# Altium integrated library NSC Voltage Reference.IntLib: 298 symbols (part 6 of 7)
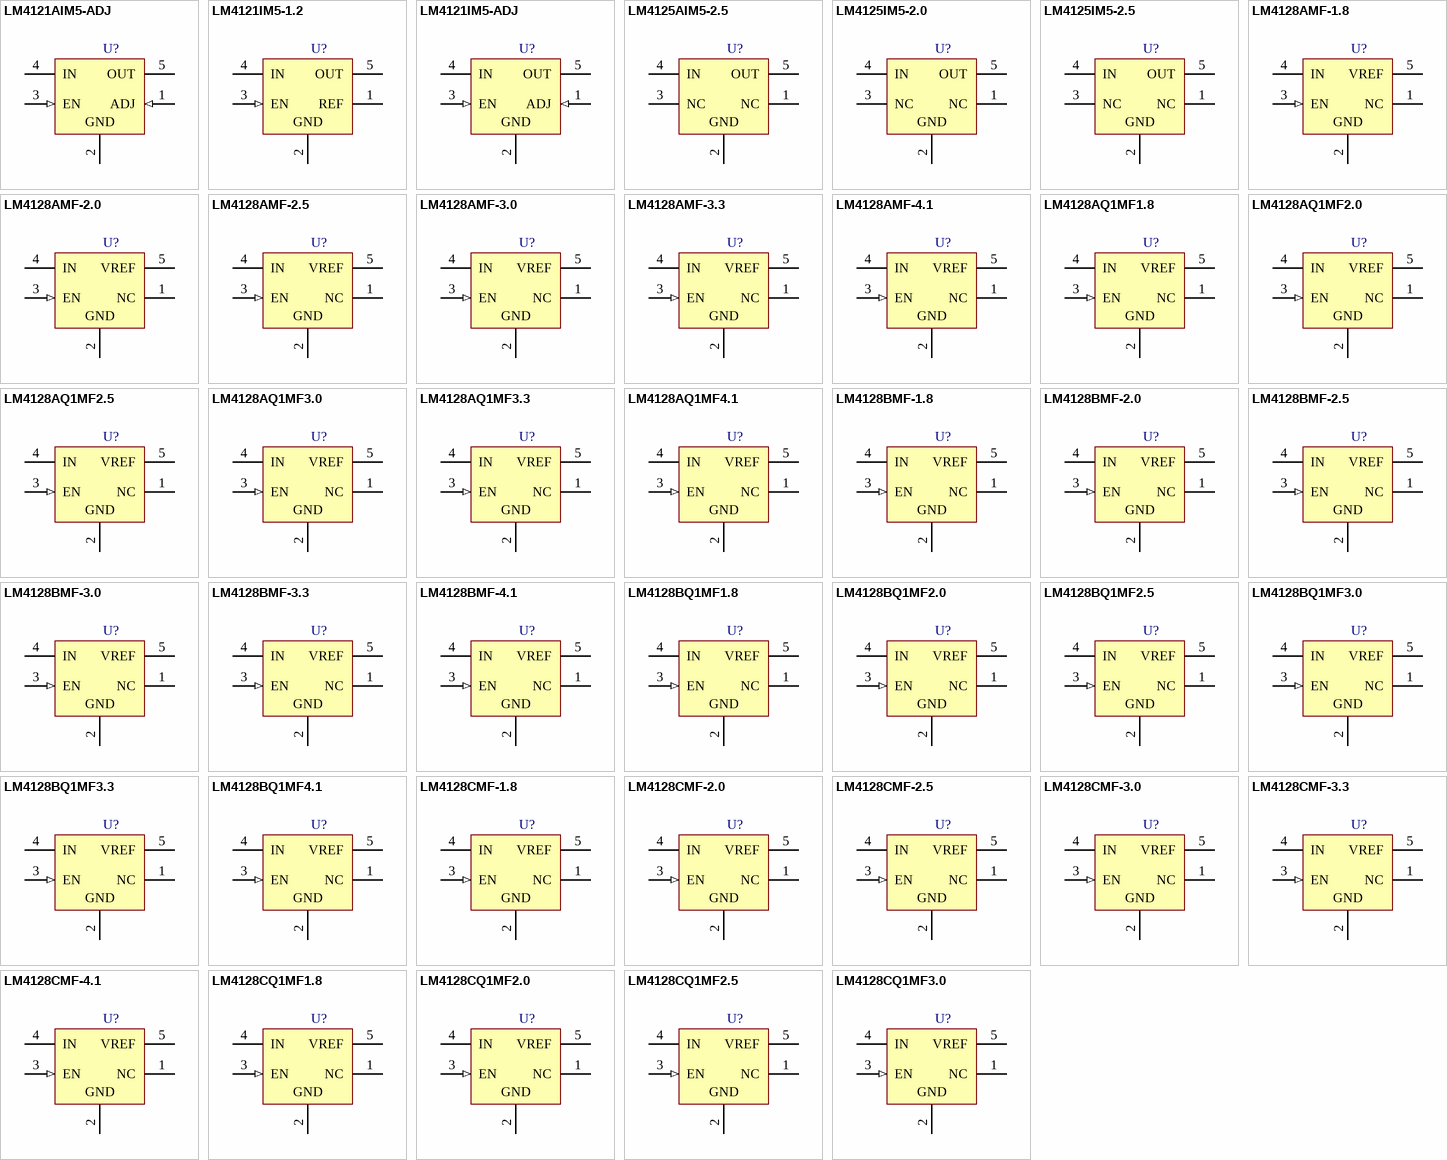
[diagram p12: symbols LM4121AIM5-ADJ to LM4128CQ1MF3.0]

## LM4128CMF-2.5
designator U?
SOT-23 Precision Micropower Series Voltage Reference; PartNumber: LM4128CMF-2.5; Manufacturer: National Semiconductor; CompType: Voltage Reference IC; PackageTopMarking: R5CC*XTT; PowerWise: Y; Published: 4-Dec-2008; DatasheetVersion: Nov-2006; PackageVersion: revD, Aug-2008; PackageReference: MF05A; Publisher: Altium Limited; PackageDescription: Molded SOT-23, .115 x .063 x .040 in Body, 5 Lead, .0375 in Pitch; RoHS: Y; PinCount: 5; DigiKeyPartNumber: LM4128CMF-2.5CT-ND; ComponentLink1Description: LM4128 Datasheet; ComponentLink1URL: http://www.national.com/ds/LM/LM4128.pdf; ComponentLink2Description: LM4128 Web Page; ComponentLink2URL: http://www.national.com/pf/LM/LM4128.html; ComponentLink3Description: MF05A Package Page; ComponentLink3URL: http://www.national.com/packaging/folders/mf05a.html
footprint MF05A_N (SOT23, 5-Leads, Body 2.9x1.6mm, Pitch 0.95mm, Lead Span 2.8mm, IPC Medium Density)
footprint MF05A_L (SOT23, 5-Leads, Body 2.9x1.6mm, Pitch 0.95mm, Lead Span 2.8mm, IPC High Density)
footprint MF05A_M (SOT23, 5-Leads, Body 2.9x1.6mm, Pitch 0.95mm, Lead Span 2.8mm, IPC Low Density)
pins: 1 NC, 2 GND (power), 3 EN (in), 4 IN (power), 5 VREF (power)

## LM4128CMF-3.0
designator U?
SOT-23 Precision Micropower Series Voltage Reference; PartNumber: LM4128CMF-3.0; Manufacturer: National Semiconductor; CompType: Voltage Reference IC; PackageTopMarking: R5DC*XTT; PowerWise: Y; Published: 4-Dec-2008; DatasheetVersion: Nov-2006; PackageVersion: revD, Aug-2008; PackageReference: MF05A; Publisher: Altium Limited; PackageDescription: Molded SOT-23, .115 x .063 x .040 in Body, 5 Lead, .0375 in Pitch; RoHS: Y; PinCount: 5; DigiKeyPartNumber: LM4128CMF-3.0CT-ND; ComponentLink1Description: LM4128 Datasheet; ComponentLink1URL: http://www.national.com/ds/LM/LM4128.pdf; ComponentLink2Description: LM4128 Web Page; ComponentLink2URL: http://www.national.com/pf/LM/LM4128.html; ComponentLink3Description: MF05A Package Page; ComponentLink3URL: http://www.national.com/packaging/folders/mf05a.html
footprint MF05A_N (SOT23, 5-Leads, Body 2.9x1.6mm, Pitch 0.95mm, Lead Span 2.8mm, IPC Medium Density)
footprint MF05A_L (SOT23, 5-Leads, Body 2.9x1.6mm, Pitch 0.95mm, Lead Span 2.8mm, IPC High Density)
footprint MF05A_M (SOT23, 5-Leads, Body 2.9x1.6mm, Pitch 0.95mm, Lead Span 2.8mm, IPC Low Density)
pins: 1 NC, 2 GND (power), 3 EN (in), 4 IN (power), 5 VREF (power)

## LM4128CMF-3.3
designator U?
SOT-23 Precision Micropower Series Voltage Reference; PartNumber: LM4128CMF-3.3; Manufacturer: National Semiconductor; CompType: Voltage Reference IC; PackageTopMarking: R5EC*XTT; PowerWise: Y; Published: 4-Dec-2008; DatasheetVersion: Nov-2006; PackageVersion: revD, Aug-2008; PackageReference: MF05A; Publisher: Altium Limited; PackageDescription: Molded SOT-23, .115 x .063 x .040 in Body, 5 Lead, .0375 in Pitch; RoHS: Y; PinCount: 5; DigiKeyPartNumber: LM4128CMF-3.3CT-ND; ComponentLink1Description: LM4128 Datasheet; ComponentLink1URL: http://www.national.com/ds/LM/LM4128.pdf; ComponentLink2Description: LM4128 Web Page; ComponentLink2URL: http://www.national.com/pf/LM/LM4128.html; ComponentLink3Description: MF05A Package Page; ComponentLink3URL: http://www.national.com/packaging/folders/mf05a.html
footprint MF05A_N (SOT23, 5-Leads, Body 2.9x1.6mm, Pitch 0.95mm, Lead Span 2.8mm, IPC Medium Density)
footprint MF05A_L (SOT23, 5-Leads, Body 2.9x1.6mm, Pitch 0.95mm, Lead Span 2.8mm, IPC High Density)
footprint MF05A_M (SOT23, 5-Leads, Body 2.9x1.6mm, Pitch 0.95mm, Lead Span 2.8mm, IPC Low Density)
pins: 1 NC, 2 GND (power), 3 EN (in), 4 IN (power), 5 VREF (power)

## LM4128CMF-4.1
designator U?
SOT-23 Precision Micropower Series Voltage Reference; PartNumber: LM4128CMF-4.1; Manufacturer: National Semiconductor; CompType: Voltage Reference IC; PackageTopMarking: R5FC*XTT; PowerWise: Y; Published: 4-Dec-2008; DatasheetVersion: Nov-2006; PackageVersion: revD, Aug-2008; PackageReference: MF05A; Publisher: Altium Limited; PackageDescription: Molded SOT-23, .115 x .063 x .040 in Body, 5 Lead, .0375 in Pitch; RoHS: Y; PinCount: 5; DigiKeyPartNumber: LM4128CMF-4.1CT-ND; ComponentLink1Description: LM4128 Datasheet; ComponentLink1URL: http://www.national.com/ds/LM/LM4128.pdf; ComponentLink2Description: LM4128 Web Page; ComponentLink2URL: http://www.national.com/pf/LM/LM4128.html; ComponentLink3Description: MF05A Package Page; ComponentLink3URL: http://www.national.com/packaging/folders/mf05a.html
footprint MF05A_N (SOT23, 5-Leads, Body 2.9x1.6mm, Pitch 0.95mm, Lead Span 2.8mm, IPC Medium Density)
footprint MF05A_L (SOT23, 5-Leads, Body 2.9x1.6mm, Pitch 0.95mm, Lead Span 2.8mm, IPC High Density)
footprint MF05A_M (SOT23, 5-Leads, Body 2.9x1.6mm, Pitch 0.95mm, Lead Span 2.8mm, IPC Low Density)
pins: 1 NC, 2 GND (power), 3 EN (in), 4 IN (power), 5 VREF (power)

## LM4128CQ1MF1.8
designator U?
SOT-23 Precision Micropower Series Voltage Reference; PartNumber: LM4128CQ1MF1.8; Manufacturer: National Semiconductor; CompType: Voltage Reference IC; PackageTopMarking: R6AC*XTT; PowerWise: N; Published: 29-May-2009; DatasheetVersion: Feb-2009; PackageVersion: revD, Aug-2008; PackageReference: MF05A; Publisher: Altium Limited; PackageDescription: Molded SOT-23, .115 x .063 x .040 in Body, 5 Lead, .0375 in Pitch; RoHS: Y; PinCount: 5; DigiKeyPartNumber: LM4128CQ1MF1.8CT-ND; ComponentLink1Description: LM4128 Datasheet; ComponentLink1URL: http://www.national.com/ds/LM/LM4128.pdf; ComponentLink2Description: LM4128 Web Page; ComponentLink2URL: http://www.national.com/pf/LM/LM4128.html; ComponentLink3Description: MF05A Package Page; ComponentLink3URL: http://www.national.com/packaging/folders/mf05a.html
footprint MF05A_N (SOT23, 5-Leads, Body 2.9x1.6mm, Pitch 0.95mm, Lead Span 2.8mm, IPC Medium Density)
footprint MF05A_L (SOT23, 5-Leads, Body 2.9x1.6mm, Pitch 0.95mm, Lead Span 2.8mm, IPC High Density)
footprint MF05A_M (SOT23, 5-Leads, Body 2.9x1.6mm, Pitch 0.95mm, Lead Span 2.8mm, IPC Low Density)
pins: 1 NC, 2 GND (power), 3 EN (in), 4 IN (power), 5 VREF (power)

## LM4128CQ1MF2.0
designator U?
SOT-23 Precision Micropower Series Voltage Reference; PartNumber: LM4128CQ1MF2.0; Manufacturer: National Semiconductor; CompType: Voltage Reference IC; PackageTopMarking: R6BC*XTT; PowerWise: N; Published: 29-May-2009; DatasheetVersion: Feb-2009; PackageVersion: revD, Aug-2008; PackageReference: MF05A; Publisher: Altium Limited; PackageDescription: Molded SOT-23, .115 x .063 x .040 in Body, 5 Lead, .0375 in Pitch; RoHS: Y; PinCount: 5; DigiKeyPartNumber: LM4128CQ1MF2.0CT-ND; ComponentLink1Description: LM4128 Datasheet; ComponentLink1URL: http://www.national.com/ds/LM/LM4128.pdf; ComponentLink2Description: LM4128 Web Page; ComponentLink2URL: http://www.national.com/pf/LM/LM4128.html; ComponentLink3Description: MF05A Package Page; ComponentLink3URL: http://www.national.com/packaging/folders/mf05a.html
footprint MF05A_N (SOT23, 5-Leads, Body 2.9x1.6mm, Pitch 0.95mm, Lead Span 2.8mm, IPC Medium Density)
footprint MF05A_L (SOT23, 5-Leads, Body 2.9x1.6mm, Pitch 0.95mm, Lead Span 2.8mm, IPC High Density)
footprint MF05A_M (SOT23, 5-Leads, Body 2.9x1.6mm, Pitch 0.95mm, Lead Span 2.8mm, IPC Low Density)
pins: 1 NC, 2 GND (power), 3 EN (in), 4 IN (power), 5 VREF (power)

## LM4128CQ1MF2.5
designator U?
SOT-23 Precision Micropower Series Voltage Reference; PartNumber: LM4128CQ1MF2.5; Manufacturer: National Semiconductor; CompType: Voltage Reference IC; PackageTopMarking: R6CC*XTT; PowerWise: N; Published: 29-May-2009; DatasheetVersion: Feb-2009; PackageVersion: revD, Aug-2008; PackageReference: MF05A; Publisher: Altium Limited; PackageDescription: Molded SOT-23, .115 x .063 x .040 in Body, 5 Lead, .0375 in Pitch; RoHS: Y; PinCount: 5; DigiKeyPartNumber: LM4128CQ1MF2.5CT-ND; ComponentLink1Description: LM4128 Datasheet; ComponentLink1URL: http://www.national.com/ds/LM/LM4128.pdf; ComponentLink2Description: LM4128 Web Page; ComponentLink2URL: http://www.national.com/pf/LM/LM4128.html; ComponentLink3Description: MF05A Package Page; ComponentLink3URL: http://www.national.com/packaging/folders/mf05a.html
footprint MF05A_N (SOT23, 5-Leads, Body 2.9x1.6mm, Pitch 0.95mm, Lead Span 2.8mm, IPC Medium Density)
footprint MF05A_L (SOT23, 5-Leads, Body 2.9x1.6mm, Pitch 0.95mm, Lead Span 2.8mm, IPC High Density)
footprint MF05A_M (SOT23, 5-Leads, Body 2.9x1.6mm, Pitch 0.95mm, Lead Span 2.8mm, IPC Low Density)
pins: 1 NC, 2 GND (power), 3 EN (in), 4 IN (power), 5 VREF (power)

## LM4128CQ1MF3.0
designator U?
SOT-23 Precision Micropower Series Voltage Reference; PartNumber: LM4128CQ1MF3.0; Manufacturer: National Semiconductor; CompType: Voltage Reference IC; PackageTopMarking: R6DC*XTT; PowerWise: N; Published: 29-May-2009; DatasheetVersion: Feb-2009; PackageVersion: revD, Aug-2008; PackageReference: MF05A; Publisher: Altium Limited; PackageDescription: Molded SOT-23, .115 x .063 x .040 in Body, 5 Lead, .0375 in Pitch; RoHS: Y; PinCount: 5; DigiKeyPartNumber: LM4128CQ1MF3.0CT-ND; ComponentLink1Description: LM4128 Datasheet; ComponentLink1URL: http://www.national.com/ds/LM/LM4128.pdf; ComponentLink2Description: LM4128 Web Page; ComponentLink2URL: http://www.national.com/pf/LM/LM4128.html; ComponentLink3Description: MF05A Package Page; ComponentLink3URL: http://www.national.com/packaging/folders/mf05a.html
footprint MF05A_N (SOT23, 5-Leads, Body 2.9x1.6mm, Pitch 0.95mm, Lead Span 2.8mm, IPC Medium Density)
footprint MF05A_L (SOT23, 5-Leads, Body 2.9x1.6mm, Pitch 0.95mm, Lead Span 2.8mm, IPC High Density)
footprint MF05A_M (SOT23, 5-Leads, Body 2.9x1.6mm, Pitch 0.95mm, Lead Span 2.8mm, IPC Low Density)
pins: 1 NC, 2 GND (power), 3 EN (in), 4 IN (power), 5 VREF (power)

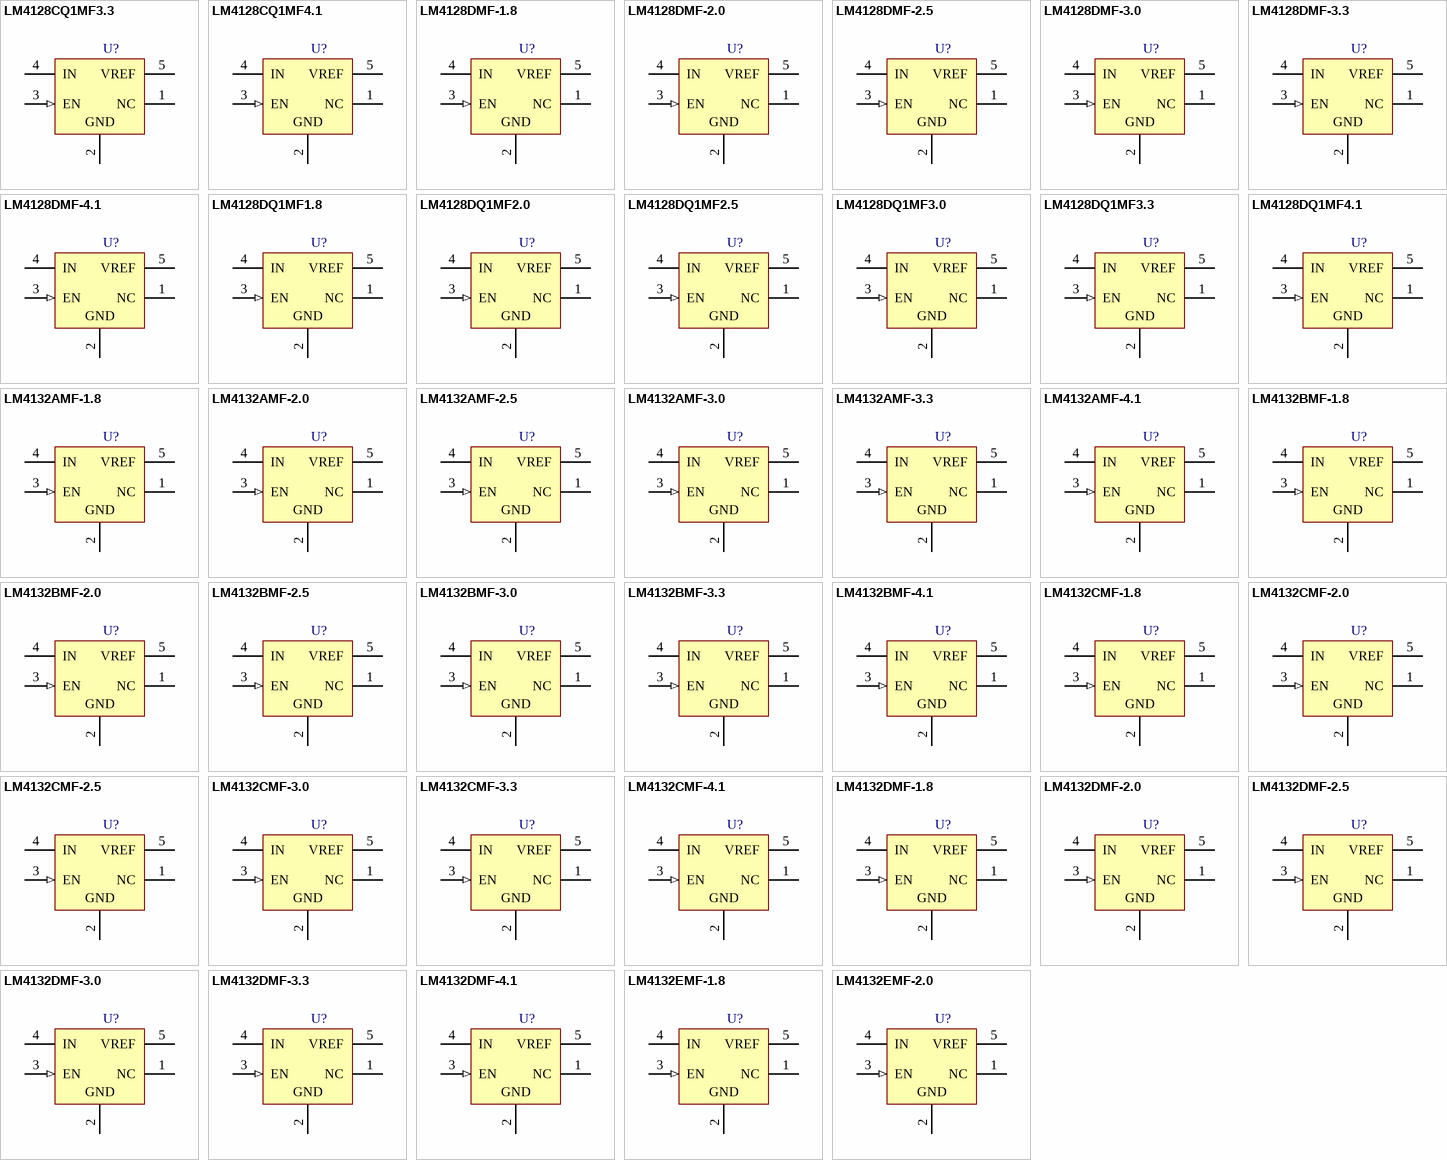
[diagram p6: symbols LM4128CQ1MF3.3 to LM4132EMF-2.0]

## LM4128CQ1MF3.3
designator U?
SOT-23 Precision Micropower Series Voltage Reference; PartNumber: LM4128CQ1MF3.3; Manufacturer: National Semiconductor; CompType: Voltage Reference IC; PackageTopMarking: R6EC*XTT; PowerWise: N; Published: 29-May-2009; DatasheetVersion: Feb-2009; PackageVersion: revD, Aug-2008; PackageReference: MF05A; Publisher: Altium Limited; PackageDescription: Molded SOT-23, .115 x .063 x .040 in Body, 5 Lead, .0375 in Pitch; RoHS: Y; PinCount: 5; DigiKeyPartNumber: LM4128CQ1MF3.3CT-ND; ComponentLink1Description: LM4128 Datasheet; ComponentLink1URL: http://www.national.com/ds/LM/LM4128.pdf; ComponentLink2Description: LM4128 Web Page; ComponentLink2URL: http://www.national.com/pf/LM/LM4128.html; ComponentLink3Description: MF05A Package Page; ComponentLink3URL: http://www.national.com/packaging/folders/mf05a.html
footprint MF05A_N (SOT23, 5-Leads, Body 2.9x1.6mm, Pitch 0.95mm, Lead Span 2.8mm, IPC Medium Density)
footprint MF05A_L (SOT23, 5-Leads, Body 2.9x1.6mm, Pitch 0.95mm, Lead Span 2.8mm, IPC High Density)
footprint MF05A_M (SOT23, 5-Leads, Body 2.9x1.6mm, Pitch 0.95mm, Lead Span 2.8mm, IPC Low Density)
pins: 1 NC, 2 GND (power), 3 EN (in), 4 IN (power), 5 VREF (power)

## LM4128CQ1MF4.1
designator U?
SOT-23 Precision Micropower Series Voltage Reference; PartNumber: LM4128CQ1MF4.1; Manufacturer: National Semiconductor; CompType: Voltage Reference IC; PackageTopMarking: R6FC*XTT; PowerWise: N; Published: 29-May-2009; DatasheetVersion: Feb-2009; PackageVersion: revD, Aug-2008; PackageReference: MF05A; Publisher: Altium Limited; PackageDescription: Molded SOT-23, .115 x .063 x .040 in Body, 5 Lead, .0375 in Pitch; RoHS: Y; PinCount: 5; DigiKeyPartNumber: LM4128CQ1MF4.1CT-ND; ComponentLink1Description: LM4128 Datasheet; ComponentLink1URL: http://www.national.com/ds/LM/LM4128.pdf; ComponentLink2Description: LM4128 Web Page; ComponentLink2URL: http://www.national.com/pf/LM/LM4128.html; ComponentLink3Description: MF05A Package Page; ComponentLink3URL: http://www.national.com/packaging/folders/mf05a.html
footprint MF05A_N (SOT23, 5-Leads, Body 2.9x1.6mm, Pitch 0.95mm, Lead Span 2.8mm, IPC Medium Density)
footprint MF05A_L (SOT23, 5-Leads, Body 2.9x1.6mm, Pitch 0.95mm, Lead Span 2.8mm, IPC High Density)
footprint MF05A_M (SOT23, 5-Leads, Body 2.9x1.6mm, Pitch 0.95mm, Lead Span 2.8mm, IPC Low Density)
pins: 1 NC, 2 GND (power), 3 EN (in), 4 IN (power), 5 VREF (power)

## LM4128DMF-1.8
designator U?
SOT-23 Precision Micropower Series Voltage Reference; PartNumber: LM4128DMF-1.8; Manufacturer: National Semiconductor; CompType: Voltage Reference IC; PackageTopMarking: R5AD*XTT; PowerWise: Y; Published: 4-Dec-2008; DatasheetVersion: Nov-2006; PackageVersion: revD, Aug-2008; PackageReference: MF05A; Publisher: Altium Limited; PackageDescription: Molded SOT-23, .115 x .063 x .040 in Body, 5 Lead, .0375 in Pitch; RoHS: Y; PinCount: 5; DigiKeyPartNumber: LM4128DMF-1.8CT-ND; ComponentLink1Description: LM4128 Datasheet; ComponentLink1URL: http://www.national.com/ds/LM/LM4128.pdf; ComponentLink2Description: LM4128 Web Page; ComponentLink2URL: http://www.national.com/pf/LM/LM4128.html; ComponentLink3Description: MF05A Package Page; ComponentLink3URL: http://www.national.com/packaging/folders/mf05a.html
footprint MF05A_N (SOT23, 5-Leads, Body 2.9x1.6mm, Pitch 0.95mm, Lead Span 2.8mm, IPC Medium Density)
footprint MF05A_L (SOT23, 5-Leads, Body 2.9x1.6mm, Pitch 0.95mm, Lead Span 2.8mm, IPC High Density)
footprint MF05A_M (SOT23, 5-Leads, Body 2.9x1.6mm, Pitch 0.95mm, Lead Span 2.8mm, IPC Low Density)
pins: 1 NC, 2 GND (power), 3 EN (in), 4 IN (power), 5 VREF (power)

## LM4128DMF-2.0
designator U?
SOT-23 Precision Micropower Series Voltage Reference; PartNumber: LM4128DMF-2.0; Manufacturer: National Semiconductor; CompType: Voltage Reference IC; PackageTopMarking: R5BD*XTT; PowerWise: Y; Published: 4-Dec-2008; DatasheetVersion: Nov-2006; PackageVersion: revD, Aug-2008; PackageReference: MF05A; Publisher: Altium Limited; PackageDescription: Molded SOT-23, .115 x .063 x .040 in Body, 5 Lead, .0375 in Pitch; RoHS: Y; PinCount: 5; DigiKeyPartNumber: LM4128DMF-2.0CT-ND; ComponentLink1Description: LM4128 Datasheet; ComponentLink1URL: http://www.national.com/ds/LM/LM4128.pdf; ComponentLink2Description: LM4128 Web Page; ComponentLink2URL: http://www.national.com/pf/LM/LM4128.html; ComponentLink3Description: MF05A Package Page; ComponentLink3URL: http://www.national.com/packaging/folders/mf05a.html
footprint MF05A_N (SOT23, 5-Leads, Body 2.9x1.6mm, Pitch 0.95mm, Lead Span 2.8mm, IPC Medium Density)
footprint MF05A_L (SOT23, 5-Leads, Body 2.9x1.6mm, Pitch 0.95mm, Lead Span 2.8mm, IPC High Density)
footprint MF05A_M (SOT23, 5-Leads, Body 2.9x1.6mm, Pitch 0.95mm, Lead Span 2.8mm, IPC Low Density)
pins: 1 NC, 2 GND (power), 3 EN (in), 4 IN (power), 5 VREF (power)

## LM4128DMF-2.5
designator U?
SOT-23 Precision Micropower Series Voltage Reference; PartNumber: LM4128DMF-2.5; Manufacturer: National Semiconductor; CompType: Voltage Reference IC; PackageTopMarking: R5CD*XTT; PowerWise: Y; Published: 4-Dec-2008; DatasheetVersion: Nov-2006; PackageVersion: revD, Aug-2008; PackageReference: MF05A; Publisher: Altium Limited; PackageDescription: Molded SOT-23, .115 x .063 x .040 in Body, 5 Lead, .0375 in Pitch; RoHS: Y; PinCount: 5; DigiKeyPartNumber: LM4128DMF-2.5CT-ND; ComponentLink1Description: LM4128 Datasheet; ComponentLink1URL: http://www.national.com/ds/LM/LM4128.pdf; ComponentLink2Description: LM4128 Web Page; ComponentLink2URL: http://www.national.com/pf/LM/LM4128.html; ComponentLink3Description: MF05A Package Page; ComponentLink3URL: http://www.national.com/packaging/folders/mf05a.html
footprint MF05A_N (SOT23, 5-Leads, Body 2.9x1.6mm, Pitch 0.95mm, Lead Span 2.8mm, IPC Medium Density)
footprint MF05A_L (SOT23, 5-Leads, Body 2.9x1.6mm, Pitch 0.95mm, Lead Span 2.8mm, IPC High Density)
footprint MF05A_M (SOT23, 5-Leads, Body 2.9x1.6mm, Pitch 0.95mm, Lead Span 2.8mm, IPC Low Density)
pins: 1 NC, 2 GND (power), 3 EN (in), 4 IN (power), 5 VREF (power)

## LM4128DMF-3.0
designator U?
SOT-23 Precision Micropower Series Voltage Reference; PartNumber: LM4128DMF-3.0; Manufacturer: National Semiconductor; CompType: Voltage Reference IC; PackageTopMarking: R5DD*XTT; PowerWise: Y; Published: 4-Dec-2008; DatasheetVersion: Nov-2006; PackageVersion: revD, Aug-2008; PackageReference: MF05A; Publisher: Altium Limited; PackageDescription: Molded SOT-23, .115 x .063 x .040 in Body, 5 Lead, .0375 in Pitch; RoHS: Y; PinCount: 5; DigiKeyPartNumber: LM4128DMF-3.0CT-ND; ComponentLink1Description: LM4128 Datasheet; ComponentLink1URL: http://www.national.com/ds/LM/LM4128.pdf; ComponentLink2Description: LM4128 Web Page; ComponentLink2URL: http://www.national.com/pf/LM/LM4128.html; ComponentLink3Description: MF05A Package Page; ComponentLink3URL: http://www.national.com/packaging/folders/mf05a.html
footprint MF05A_N (SOT23, 5-Leads, Body 2.9x1.6mm, Pitch 0.95mm, Lead Span 2.8mm, IPC Medium Density)
footprint MF05A_L (SOT23, 5-Leads, Body 2.9x1.6mm, Pitch 0.95mm, Lead Span 2.8mm, IPC High Density)
footprint MF05A_M (SOT23, 5-Leads, Body 2.9x1.6mm, Pitch 0.95mm, Lead Span 2.8mm, IPC Low Density)
pins: 1 NC, 2 GND (power), 3 EN (in), 4 IN (power), 5 VREF (power)

## LM4128DMF-3.3
designator U?
SOT-23 Precision Micropower Series Voltage Reference; PartNumber: LM4128DMF-3.3; Manufacturer: National Semiconductor; CompType: Voltage Reference IC; PackageTopMarking: R5ED*XTT; PowerWise: Y; Published: 4-Dec-2008; DatasheetVersion: Nov-2006; PackageVersion: revD, Aug-2008; PackageReference: MF05A; Publisher: Altium Limited; PackageDescription: Molded SOT-23, .115 x .063 x .040 in Body, 5 Lead, .0375 in Pitch; RoHS: Y; PinCount: 5; DigiKeyPartNumber: LM4128DMF-3.3CT-ND; ComponentLink1Description: LM4128 Datasheet; ComponentLink1URL: http://www.national.com/ds/LM/LM4128.pdf; ComponentLink2Description: LM4128 Web Page; ComponentLink2URL: http://www.national.com/pf/LM/LM4128.html; ComponentLink3Description: MF05A Package Page; ComponentLink3URL: http://www.national.com/packaging/folders/mf05a.html
footprint MF05A_N (SOT23, 5-Leads, Body 2.9x1.6mm, Pitch 0.95mm, Lead Span 2.8mm, IPC Medium Density)
footprint MF05A_L (SOT23, 5-Leads, Body 2.9x1.6mm, Pitch 0.95mm, Lead Span 2.8mm, IPC High Density)
footprint MF05A_M (SOT23, 5-Leads, Body 2.9x1.6mm, Pitch 0.95mm, Lead Span 2.8mm, IPC Low Density)
pins: 1 NC, 2 GND (power), 3 EN (in), 4 IN (power), 5 VREF (power)

## LM4128DMF-4.1
designator U?
SOT-23 Precision Micropower Series Voltage Reference; PartNumber: LM4128DMF-4.1; Manufacturer: National Semiconductor; CompType: Voltage Reference IC; PackageTopMarking: R5FD*XTT; PowerWise: Y; Published: 4-Dec-2008; DatasheetVersion: Nov-2006; PackageVersion: revD, Aug-2008; PackageReference: MF05A; Publisher: Altium Limited; PackageDescription: Molded SOT-23, .115 x .063 x .040 in Body, 5 Lead, .0375 in Pitch; RoHS: Y; PinCount: 5; DigiKeyPartNumber: LM4128DMF-4.1CT-ND; ComponentLink1Description: LM4128 Datasheet; ComponentLink1URL: http://www.national.com/ds/LM/LM4128.pdf; ComponentLink2Description: LM4128 Web Page; ComponentLink2URL: http://www.national.com/pf/LM/LM4128.html; ComponentLink3Description: MF05A Package Page; ComponentLink3URL: http://www.national.com/packaging/folders/mf05a.html
footprint MF05A_N (SOT23, 5-Leads, Body 2.9x1.6mm, Pitch 0.95mm, Lead Span 2.8mm, IPC Medium Density)
footprint MF05A_L (SOT23, 5-Leads, Body 2.9x1.6mm, Pitch 0.95mm, Lead Span 2.8mm, IPC High Density)
footprint MF05A_M (SOT23, 5-Leads, Body 2.9x1.6mm, Pitch 0.95mm, Lead Span 2.8mm, IPC Low Density)
pins: 1 NC, 2 GND (power), 3 EN (in), 4 IN (power), 5 VREF (power)

## LM4128DQ1MF1.8
designator U?
SOT-23 Precision Micropower Series Voltage Reference; PartNumber: LM4128DQ1MF1.8; Manufacturer: National Semiconductor; CompType: Voltage Reference IC; PackageTopMarking: R6AD*XTT; PowerWise: N; Published: 29-May-2009; DatasheetVersion: Feb-2009; PackageVersion: revD, Aug-2008; PackageReference: MF05A; Publisher: Altium Limited; PackageDescription: Molded SOT-23, .115 x .063 x .040 in Body, 5 Lead, .0375 in Pitch; RoHS: Y; PinCount: 5; DigiKeyPartNumber: LM4128DQ1MF1.8CT-ND; ComponentLink1Description: LM4128 Datasheet; ComponentLink1URL: http://www.national.com/ds/LM/LM4128.pdf; ComponentLink2Description: LM4128 Web Page; ComponentLink2URL: http://www.national.com/pf/LM/LM4128.html; ComponentLink3Description: MF05A Package Page; ComponentLink3URL: http://www.national.com/packaging/folders/mf05a.html
footprint MF05A_N (SOT23, 5-Leads, Body 2.9x1.6mm, Pitch 0.95mm, Lead Span 2.8mm, IPC Medium Density)
footprint MF05A_L (SOT23, 5-Leads, Body 2.9x1.6mm, Pitch 0.95mm, Lead Span 2.8mm, IPC High Density)
footprint MF05A_M (SOT23, 5-Leads, Body 2.9x1.6mm, Pitch 0.95mm, Lead Span 2.8mm, IPC Low Density)
pins: 1 NC, 2 GND (power), 3 EN (in), 4 IN (power), 5 VREF (power)

## LM4128DQ1MF2.0
designator U?
SOT-23 Precision Micropower Series Voltage Reference; PartNumber: LM4128DQ1MF2.0; Manufacturer: National Semiconductor; CompType: Voltage Reference IC; PackageTopMarking: R6BD*XTT; PowerWise: N; Published: 29-May-2009; DatasheetVersion: Feb-2009; PackageVersion: revD, Aug-2008; PackageReference: MF05A; Publisher: Altium Limited; PackageDescription: Molded SOT-23, .115 x .063 x .040 in Body, 5 Lead, .0375 in Pitch; RoHS: Y; PinCount: 5; DigiKeyPartNumber: LM4128DQ1MF2.0CT-ND; ComponentLink1Description: LM4128 Datasheet; ComponentLink1URL: http://www.national.com/ds/LM/LM4128.pdf; ComponentLink2Description: LM4128 Web Page; ComponentLink2URL: http://www.national.com/pf/LM/LM4128.html; ComponentLink3Description: MF05A Package Page; ComponentLink3URL: http://www.national.com/packaging/folders/mf05a.html
footprint MF05A_N (SOT23, 5-Leads, Body 2.9x1.6mm, Pitch 0.95mm, Lead Span 2.8mm, IPC Medium Density)
footprint MF05A_L (SOT23, 5-Leads, Body 2.9x1.6mm, Pitch 0.95mm, Lead Span 2.8mm, IPC High Density)
footprint MF05A_M (SOT23, 5-Leads, Body 2.9x1.6mm, Pitch 0.95mm, Lead Span 2.8mm, IPC Low Density)
pins: 1 NC, 2 GND (power), 3 EN (in), 4 IN (power), 5 VREF (power)

## LM4128DQ1MF2.5
designator U?
SOT-23 Precision Micropower Series Voltage Reference; PartNumber: LM4128DQ1MF2.5; Manufacturer: National Semiconductor; CompType: Voltage Reference IC; PackageTopMarking: R6CD*XTT; PowerWise: N; Published: 29-May-2009; DatasheetVersion: Feb-2009; PackageVersion: revD, Aug-2008; PackageReference: MF05A; Publisher: Altium Limited; PackageDescription: Molded SOT-23, .115 x .063 x .040 in Body, 5 Lead, .0375 in Pitch; RoHS: Y; PinCount: 5; DigiKeyPartNumber: LM4128DQ1MF2.5CT-ND; ComponentLink1Description: LM4128 Datasheet; ComponentLink1URL: http://www.national.com/ds/LM/LM4128.pdf; ComponentLink2Description: LM4128 Web Page; ComponentLink2URL: http://www.national.com/pf/LM/LM4128.html; ComponentLink3Description: MF05A Package Page; ComponentLink3URL: http://www.national.com/packaging/folders/mf05a.html
footprint MF05A_N (SOT23, 5-Leads, Body 2.9x1.6mm, Pitch 0.95mm, Lead Span 2.8mm, IPC Medium Density)
footprint MF05A_L (SOT23, 5-Leads, Body 2.9x1.6mm, Pitch 0.95mm, Lead Span 2.8mm, IPC High Density)
footprint MF05A_M (SOT23, 5-Leads, Body 2.9x1.6mm, Pitch 0.95mm, Lead Span 2.8mm, IPC Low Density)
pins: 1 NC, 2 GND (power), 3 EN (in), 4 IN (power), 5 VREF (power)

## LM4128DQ1MF3.0
designator U?
SOT-23 Precision Micropower Series Voltage Reference; PartNumber: LM4128DQ1MF3.0; Manufacturer: National Semiconductor; CompType: Voltage Reference IC; PackageTopMarking: R6DD*XTT; PowerWise: N; Published: 29-May-2009; DatasheetVersion: Feb-2009; PackageVersion: revD, Aug-2008; PackageReference: MF05A; Publisher: Altium Limited; PackageDescription: Molded SOT-23, .115 x .063 x .040 in Body, 5 Lead, .0375 in Pitch; RoHS: Y; PinCount: 5; DigiKeyPartNumber: LM4128DQ1MF3.0CT-ND; ComponentLink1Description: LM4128 Datasheet; ComponentLink1URL: http://www.national.com/ds/LM/LM4128.pdf; ComponentLink2Description: LM4128 Web Page; ComponentLink2URL: http://www.national.com/pf/LM/LM4128.html; ComponentLink3Description: MF05A Package Page; ComponentLink3URL: http://www.national.com/packaging/folders/mf05a.html
footprint MF05A_N (SOT23, 5-Leads, Body 2.9x1.6mm, Pitch 0.95mm, Lead Span 2.8mm, IPC Medium Density)
footprint MF05A_L (SOT23, 5-Leads, Body 2.9x1.6mm, Pitch 0.95mm, Lead Span 2.8mm, IPC High Density)
footprint MF05A_M (SOT23, 5-Leads, Body 2.9x1.6mm, Pitch 0.95mm, Lead Span 2.8mm, IPC Low Density)
pins: 1 NC, 2 GND (power), 3 EN (in), 4 IN (power), 5 VREF (power)

## LM4128DQ1MF3.3
designator U?
SOT-23 Precision Micropower Series Voltage Reference; PartNumber: LM4128DQ1MF3.3; Manufacturer: National Semiconductor; CompType: Voltage Reference IC; PackageTopMarking: R6ED*XTT; PowerWise: N; Published: 29-May-2009; DatasheetVersion: Feb-2009; PackageVersion: revD, Aug-2008; PackageReference: MF05A; Publisher: Altium Limited; PackageDescription: Molded SOT-23, .115 x .063 x .040 in Body, 5 Lead, .0375 in Pitch; RoHS: Y; PinCount: 5; DigiKeyPartNumber: LM4128DQ1MF3.3CT-ND; ComponentLink1Description: LM4128 Datasheet; ComponentLink1URL: http://www.national.com/ds/LM/LM4128.pdf; ComponentLink2Description: LM4128 Web Page; ComponentLink2URL: http://www.national.com/pf/LM/LM4128.html; ComponentLink3Description: MF05A Package Page; ComponentLink3URL: http://www.national.com/packaging/folders/mf05a.html
footprint MF05A_N (SOT23, 5-Leads, Body 2.9x1.6mm, Pitch 0.95mm, Lead Span 2.8mm, IPC Medium Density)
footprint MF05A_L (SOT23, 5-Leads, Body 2.9x1.6mm, Pitch 0.95mm, Lead Span 2.8mm, IPC High Density)
footprint MF05A_M (SOT23, 5-Leads, Body 2.9x1.6mm, Pitch 0.95mm, Lead Span 2.8mm, IPC Low Density)
pins: 1 NC, 2 GND (power), 3 EN (in), 4 IN (power), 5 VREF (power)

## LM4128DQ1MF4.1
designator U?
SOT-23 Precision Micropower Series Voltage Reference; PartNumber: LM4128DQ1MF4.1; Manufacturer: National Semiconductor; CompType: Voltage Reference IC; PackageTopMarking: R6FD*XTT; PowerWise: N; Published: 29-May-2009; DatasheetVersion: Feb-2009; PackageVersion: revD, Aug-2008; PackageReference: MF05A; Publisher: Altium Limited; PackageDescription: Molded SOT-23, .115 x .063 x .040 in Body, 5 Lead, .0375 in Pitch; RoHS: Y; PinCount: 5; DigiKeyPartNumber: LM4128DQ1MF4.1CT-ND; ComponentLink1Description: LM4128 Datasheet; ComponentLink1URL: http://www.national.com/ds/LM/LM4128.pdf; ComponentLink2Description: LM4128 Web Page; ComponentLink2URL: http://www.national.com/pf/LM/LM4128.html; ComponentLink3Description: MF05A Package Page; ComponentLink3URL: http://www.national.com/packaging/folders/mf05a.html
footprint MF05A_N (SOT23, 5-Leads, Body 2.9x1.6mm, Pitch 0.95mm, Lead Span 2.8mm, IPC Medium Density)
footprint MF05A_L (SOT23, 5-Leads, Body 2.9x1.6mm, Pitch 0.95mm, Lead Span 2.8mm, IPC High Density)
footprint MF05A_M (SOT23, 5-Leads, Body 2.9x1.6mm, Pitch 0.95mm, Lead Span 2.8mm, IPC Low Density)
pins: 1 NC, 2 GND (power), 3 EN (in), 4 IN (power), 5 VREF (power)

## LM4132AMF-1.8
designator U?
SOT-23 Precision Low Dropout Voltage Reference; PartNumber: LM4132AMF-1.8; Manufacturer: National Semiconductor; CompType: Voltage Reference IC; PackageTopMarking: R4AA*XTT; PowerWise: N; Published: 4-Dec-2008; DatasheetVersion: Aug-2006; PackageVersion: revD, Aug-2008; PackageReference: MF05A; Publisher: Altium Limited; PackageDescription: Molded SOT-23, .115 x .063 x .040 in Body, 5 Lead, .0375 in Pitch; RoHS: Y; PinCount: 5; DigiKeyPartNumber: LM4132AMF-1.8CT-ND; ComponentLink1Description: LM4132 Datasheet; ComponentLink1URL: http://www.national.com/ds/LM/LM4132.pdf; ComponentLink2Description: LM4132 Web Page; ComponentLink2URL: http://www.national.com/pf/LM/LM4132.html; ComponentLink3Description: MF05A Package Page; ComponentLink3URL: http://www.national.com/packaging/folders/mf05a.html
footprint MF05A_N (SOT23, 5-Leads, Body 2.9x1.6mm, Pitch 0.95mm, Lead Span 2.8mm, IPC Medium Density)
footprint MF05A_L (SOT23, 5-Leads, Body 2.9x1.6mm, Pitch 0.95mm, Lead Span 2.8mm, IPC High Density)
footprint MF05A_M (SOT23, 5-Leads, Body 2.9x1.6mm, Pitch 0.95mm, Lead Span 2.8mm, IPC Low Density)
pins: 1 NC, 2 GND (power), 3 EN (in), 4 IN (power), 5 VREF (power)

## LM4132AMF-2.0
designator U?
SOT-23 Precision Low Dropout Voltage Reference; PartNumber: LM4132AMF-2.0; Manufacturer: National Semiconductor; CompType: Voltage Reference IC; PackageTopMarking: R4BA*XTT; PowerWise: Y; Published: 4-Dec-2008; DatasheetVersion: Aug-2006; PackageVersion: revD, Aug-2008; PackageReference: MF05A; Publisher: Altium Limited; PackageDescription: Molded SOT-23, .115 x .063 x .040 in Body, 5 Lead, .0375 in Pitch; RoHS: Y; PinCount: 5; DigiKeyPartNumber: LM4132AMF-2.0CT-ND; ComponentLink1Description: LM4132 Datasheet; ComponentLink1URL: http://www.national.com/ds/LM/LM4132.pdf; ComponentLink2Description: LM4132 Web Page; ComponentLink2URL: http://www.national.com/pf/LM/LM4132.html; ComponentLink3Description: MF05A Package Page; ComponentLink3URL: http://www.national.com/packaging/folders/mf05a.html
footprint MF05A_N (SOT23, 5-Leads, Body 2.9x1.6mm, Pitch 0.95mm, Lead Span 2.8mm, IPC Medium Density)
footprint MF05A_L (SOT23, 5-Leads, Body 2.9x1.6mm, Pitch 0.95mm, Lead Span 2.8mm, IPC High Density)
footprint MF05A_M (SOT23, 5-Leads, Body 2.9x1.6mm, Pitch 0.95mm, Lead Span 2.8mm, IPC Low Density)
pins: 1 NC, 2 GND (power), 3 EN (in), 4 IN (power), 5 VREF (power)

## LM4132AMF-2.5
designator U?
SOT-23 Precision Low Dropout Voltage Reference; PartNumber: LM4132AMF-2.5; Manufacturer: National Semiconductor; CompType: Voltage Reference IC; PackageTopMarking: R4CA*XTT; PowerWise: Y; Published: 4-Dec-2008; DatasheetVersion: Aug-2006; PackageVersion: revD, Aug-2008; PackageReference: MF05A; Publisher: Altium Limited; PackageDescription: Molded SOT-23, .115 x .063 x .040 in Body, 5 Lead, .0375 in Pitch; RoHS: Y; PinCount: 5; DigiKeyPartNumber: LM4132AMF-2.5CT-ND; ComponentLink1Description: LM4132 Datasheet; ComponentLink1URL: http://www.national.com/ds/LM/LM4132.pdf; ComponentLink2Description: LM4132 Web Page; ComponentLink2URL: http://www.national.com/pf/LM/LM4132.html; ComponentLink3Description: MF05A Package Page; ComponentLink3URL: http://www.national.com/packaging/folders/mf05a.html
footprint MF05A_N (SOT23, 5-Leads, Body 2.9x1.6mm, Pitch 0.95mm, Lead Span 2.8mm, IPC Medium Density)
footprint MF05A_L (SOT23, 5-Leads, Body 2.9x1.6mm, Pitch 0.95mm, Lead Span 2.8mm, IPC High Density)
footprint MF05A_M (SOT23, 5-Leads, Body 2.9x1.6mm, Pitch 0.95mm, Lead Span 2.8mm, IPC Low Density)
pins: 1 NC, 2 GND (power), 3 EN (in), 4 IN (power), 5 VREF (power)

## LM4132AMF-3.0
designator U?
SOT-23 Precision Low Dropout Voltage Reference; PartNumber: LM4132AMF-3.0; Manufacturer: National Semiconductor; CompType: Voltage Reference IC; PackageTopMarking: R4DA*XTT; PowerWise: N; Published: 4-Dec-2008; DatasheetVersion: Aug-2006; PackageVersion: revD, Aug-2008; PackageReference: MF05A; Publisher: Altium Limited; PackageDescription: Molded SOT-23, .115 x .063 x .040 in Body, 5 Lead, .0375 in Pitch; RoHS: Y; PinCount: 5; DigiKeyPartNumber: LM4132AMF-3.0CT-ND; ComponentLink1Description: LM4132 Datasheet; ComponentLink1URL: http://www.national.com/ds/LM/LM4132.pdf; ComponentLink2Description: LM4132 Web Page; ComponentLink2URL: http://www.national.com/pf/LM/LM4132.html; ComponentLink3Description: MF05A Package Page; ComponentLink3URL: http://www.national.com/packaging/folders/mf05a.html
footprint MF05A_N (SOT23, 5-Leads, Body 2.9x1.6mm, Pitch 0.95mm, Lead Span 2.8mm, IPC Medium Density)
footprint MF05A_L (SOT23, 5-Leads, Body 2.9x1.6mm, Pitch 0.95mm, Lead Span 2.8mm, IPC High Density)
footprint MF05A_M (SOT23, 5-Leads, Body 2.9x1.6mm, Pitch 0.95mm, Lead Span 2.8mm, IPC Low Density)
pins: 1 NC, 2 GND (power), 3 EN (in), 4 IN (power), 5 VREF (power)

## LM4132AMF-3.3
designator U?
SOT-23 Precision Low Dropout Voltage Reference; PartNumber: LM4132AMF-3.3; Manufacturer: National Semiconductor; CompType: Voltage Reference IC; PackageTopMarking: R4EA*XTT; PowerWise: N; Published: 4-Dec-2008; DatasheetVersion: Aug-2006; PackageVersion: revD, Aug-2008; PackageReference: MF05A; Publisher: Altium Limited; PackageDescription: Molded SOT-23, .115 x .063 x .040 in Body, 5 Lead, .0375 in Pitch; RoHS: Y; PinCount: 5; DigiKeyPartNumber: LM4132AMF-3.3CT-ND; ComponentLink1Description: LM4132 Datasheet; ComponentLink1URL: http://www.national.com/ds/LM/LM4132.pdf; ComponentLink2Description: LM4132 Web Page; ComponentLink2URL: http://www.national.com/pf/LM/LM4132.html; ComponentLink3Description: MF05A Package Page; ComponentLink3URL: http://www.national.com/packaging/folders/mf05a.html
footprint MF05A_N (SOT23, 5-Leads, Body 2.9x1.6mm, Pitch 0.95mm, Lead Span 2.8mm, IPC Medium Density)
footprint MF05A_L (SOT23, 5-Leads, Body 2.9x1.6mm, Pitch 0.95mm, Lead Span 2.8mm, IPC High Density)
footprint MF05A_M (SOT23, 5-Leads, Body 2.9x1.6mm, Pitch 0.95mm, Lead Span 2.8mm, IPC Low Density)
pins: 1 NC, 2 GND (power), 3 EN (in), 4 IN (power), 5 VREF (power)

## LM4132AMF-4.1
designator U?
SOT-23 Precision Low Dropout Voltage Reference; PartNumber: LM4132AMF-4.1; Manufacturer: National Semiconductor; CompType: Voltage Reference IC; PackageTopMarking: R4FA*XTT; PowerWise: Y; Published: 4-Dec-2008; DatasheetVersion: Aug-2006; PackageVersion: revD, Aug-2008; PackageReference: MF05A; Publisher: Altium Limited; PackageDescription: Molded SOT-23, .115 x .063 x .040 in Body, 5 Lead, .0375 in Pitch; RoHS: Y; PinCount: 5; DigiKeyPartNumber: LM4132AMF-4.1CT-ND; ComponentLink1Description: LM4132 Datasheet; ComponentLink1URL: http://www.national.com/ds/LM/LM4132.pdf; ComponentLink2Description: LM4132 Web Page; ComponentLink2URL: http://www.national.com/pf/LM/LM4132.html; ComponentLink3Description: MF05A Package Page; ComponentLink3URL: http://www.national.com/packaging/folders/mf05a.html
footprint MF05A_N (SOT23, 5-Leads, Body 2.9x1.6mm, Pitch 0.95mm, Lead Span 2.8mm, IPC Medium Density)
footprint MF05A_L (SOT23, 5-Leads, Body 2.9x1.6mm, Pitch 0.95mm, Lead Span 2.8mm, IPC High Density)
footprint MF05A_M (SOT23, 5-Leads, Body 2.9x1.6mm, Pitch 0.95mm, Lead Span 2.8mm, IPC Low Density)
pins: 1 NC, 2 GND (power), 3 EN (in), 4 IN (power), 5 VREF (power)

## LM4132BMF-1.8
designator U?
SOT-23 Precision Low Dropout Voltage Reference; PartNumber: LM4132BMF-1.8; Manufacturer: National Semiconductor; CompType: Voltage Reference IC; PackageTopMarking: R4AB*XTT; PowerWise: N; Published: 4-Dec-2008; DatasheetVersion: Aug-2006; PackageVersion: revD, Aug-2008; PackageReference: MF05A; Publisher: Altium Limited; PackageDescription: Molded SOT-23, .115 x .063 x .040 in Body, 5 Lead, .0375 in Pitch; RoHS: Y; PinCount: 5; DigiKeyPartNumber: LM4132BMF-1.8CT-ND; ComponentLink1Description: LM4132 Datasheet; ComponentLink1URL: http://www.national.com/ds/LM/LM4132.pdf; ComponentLink2Description: LM4132 Web Page; ComponentLink2URL: http://www.national.com/pf/LM/LM4132.html; ComponentLink3Description: MF05A Package Page; ComponentLink3URL: http://www.national.com/packaging/folders/mf05a.html
footprint MF05A_N (SOT23, 5-Leads, Body 2.9x1.6mm, Pitch 0.95mm, Lead Span 2.8mm, IPC Medium Density)
footprint MF05A_L (SOT23, 5-Leads, Body 2.9x1.6mm, Pitch 0.95mm, Lead Span 2.8mm, IPC High Density)
footprint MF05A_M (SOT23, 5-Leads, Body 2.9x1.6mm, Pitch 0.95mm, Lead Span 2.8mm, IPC Low Density)
pins: 1 NC, 2 GND (power), 3 EN (in), 4 IN (power), 5 VREF (power)

## LM4132BMF-2.0
designator U?
SOT-23 Precision Low Dropout Voltage Reference; PartNumber: LM4132BMF-2.0; Manufacturer: National Semiconductor; CompType: Voltage Reference IC; PackageTopMarking: R4BB*XTT; PowerWise: Y; Published: 4-Dec-2008; DatasheetVersion: Aug-2006; PackageVersion: revD, Aug-2008; PackageReference: MF05A; Publisher: Altium Limited; PackageDescription: Molded SOT-23, .115 x .063 x .040 in Body, 5 Lead, .0375 in Pitch; RoHS: Y; PinCount: 5; DigiKeyPartNumber: LM4132BMF-2.0CT-ND; ComponentLink1Description: LM4132 Datasheet; ComponentLink1URL: http://www.national.com/ds/LM/LM4132.pdf; ComponentLink2Description: LM4132 Web Page; ComponentLink2URL: http://www.national.com/pf/LM/LM4132.html; ComponentLink3Description: MF05A Package Page; ComponentLink3URL: http://www.national.com/packaging/folders/mf05a.html
footprint MF05A_N (SOT23, 5-Leads, Body 2.9x1.6mm, Pitch 0.95mm, Lead Span 2.8mm, IPC Medium Density)
footprint MF05A_L (SOT23, 5-Leads, Body 2.9x1.6mm, Pitch 0.95mm, Lead Span 2.8mm, IPC High Density)
footprint MF05A_M (SOT23, 5-Leads, Body 2.9x1.6mm, Pitch 0.95mm, Lead Span 2.8mm, IPC Low Density)
pins: 1 NC, 2 GND (power), 3 EN (in), 4 IN (power), 5 VREF (power)

## LM4132BMF-2.5
designator U?
SOT-23 Precision Low Dropout Voltage Reference; PartNumber: LM4132BMF-2.5; Manufacturer: National Semiconductor; CompType: Voltage Reference IC; PackageTopMarking: R4CB*XTT; PowerWise: Y; Published: 4-Dec-2008; DatasheetVersion: Aug-2006; PackageVersion: revD, Aug-2008; PackageReference: MF05A; Publisher: Altium Limited; PackageDescription: Molded SOT-23, .115 x .063 x .040 in Body, 5 Lead, .0375 in Pitch; RoHS: Y; PinCount: 5; DigiKeyPartNumber: LM4132BMF-2.5CT-ND; ComponentLink1Description: LM4132 Datasheet; ComponentLink1URL: http://www.national.com/ds/LM/LM4132.pdf; ComponentLink2Description: LM4132 Web Page; ComponentLink2URL: http://www.national.com/pf/LM/LM4132.html; ComponentLink3Description: MF05A Package Page; ComponentLink3URL: http://www.national.com/packaging/folders/mf05a.html
footprint MF05A_N (SOT23, 5-Leads, Body 2.9x1.6mm, Pitch 0.95mm, Lead Span 2.8mm, IPC Medium Density)
footprint MF05A_L (SOT23, 5-Leads, Body 2.9x1.6mm, Pitch 0.95mm, Lead Span 2.8mm, IPC High Density)
footprint MF05A_M (SOT23, 5-Leads, Body 2.9x1.6mm, Pitch 0.95mm, Lead Span 2.8mm, IPC Low Density)
pins: 1 NC, 2 GND (power), 3 EN (in), 4 IN (power), 5 VREF (power)

## LM4132BMF-3.0
designator U?
SOT-23 Precision Low Dropout Voltage Reference; PartNumber: LM4132BMF-3.0; Manufacturer: National Semiconductor; CompType: Voltage Reference IC; PackageTopMarking: R4DB*XTT; PowerWise: N; Published: 4-Dec-2008; DatasheetVersion: Aug-2006; PackageVersion: revD, Aug-2008; PackageReference: MF05A; Publisher: Altium Limited; PackageDescription: Molded SOT-23, .115 x .063 x .040 in Body, 5 Lead, .0375 in Pitch; RoHS: Y; PinCount: 5; DigiKeyPartNumber: LM4132BMF-3.0CT-ND; ComponentLink1Description: LM4132 Datasheet; ComponentLink1URL: http://www.national.com/ds/LM/LM4132.pdf; ComponentLink2Description: LM4132 Web Page; ComponentLink2URL: http://www.national.com/pf/LM/LM4132.html; ComponentLink3Description: MF05A Package Page; ComponentLink3URL: http://www.national.com/packaging/folders/mf05a.html
footprint MF05A_N (SOT23, 5-Leads, Body 2.9x1.6mm, Pitch 0.95mm, Lead Span 2.8mm, IPC Medium Density)
footprint MF05A_L (SOT23, 5-Leads, Body 2.9x1.6mm, Pitch 0.95mm, Lead Span 2.8mm, IPC High Density)
footprint MF05A_M (SOT23, 5-Leads, Body 2.9x1.6mm, Pitch 0.95mm, Lead Span 2.8mm, IPC Low Density)
pins: 1 NC, 2 GND (power), 3 EN (in), 4 IN (power), 5 VREF (power)

## LM4132BMF-3.3
designator U?
SOT-23 Precision Low Dropout Voltage Reference; PartNumber: LM4132BMF-3.3; Manufacturer: National Semiconductor; CompType: Voltage Reference IC; PackageTopMarking: R4EB*XTT; PowerWise: N; Published: 4-Dec-2008; DatasheetVersion: Aug-2006; PackageVersion: revD, Aug-2008; PackageReference: MF05A; Publisher: Altium Limited; PackageDescription: Molded SOT-23, .115 x .063 x .040 in Body, 5 Lead, .0375 in Pitch; RoHS: Y; PinCount: 5; DigiKeyPartNumber: LM4132BMF-3.3CT-ND; ComponentLink1Description: LM4132 Datasheet; ComponentLink1URL: http://www.national.com/ds/LM/LM4132.pdf; ComponentLink2Description: LM4132 Web Page; ComponentLink2URL: http://www.national.com/pf/LM/LM4132.html; ComponentLink3Description: MF05A Package Page; ComponentLink3URL: http://www.national.com/packaging/folders/mf05a.html
footprint MF05A_N (SOT23, 5-Leads, Body 2.9x1.6mm, Pitch 0.95mm, Lead Span 2.8mm, IPC Medium Density)
footprint MF05A_L (SOT23, 5-Leads, Body 2.9x1.6mm, Pitch 0.95mm, Lead Span 2.8mm, IPC High Density)
footprint MF05A_M (SOT23, 5-Leads, Body 2.9x1.6mm, Pitch 0.95mm, Lead Span 2.8mm, IPC Low Density)
pins: 1 NC, 2 GND (power), 3 EN (in), 4 IN (power), 5 VREF (power)

## LM4132BMF-4.1
designator U?
SOT-23 Precision Low Dropout Voltage Reference; PartNumber: LM4132BMF-4.1; Manufacturer: National Semiconductor; CompType: Voltage Reference IC; PackageTopMarking: R4FB*XTT; PowerWise: Y; Published: 4-Dec-2008; DatasheetVersion: Aug-2006; PackageVersion: revD, Aug-2008; PackageReference: MF05A; Publisher: Altium Limited; PackageDescription: Molded SOT-23, .115 x .063 x .040 in Body, 5 Lead, .0375 in Pitch; RoHS: Y; PinCount: 5; DigiKeyPartNumber: LM4132BMF-4.1CT-ND; ComponentLink1Description: LM4132 Datasheet; ComponentLink1URL: http://www.national.com/ds/LM/LM4132.pdf; ComponentLink2Description: LM4132 Web Page; ComponentLink2URL: http://www.national.com/pf/LM/LM4132.html; ComponentLink3Description: MF05A Package Page; ComponentLink3URL: http://www.national.com/packaging/folders/mf05a.html
footprint MF05A_N (SOT23, 5-Leads, Body 2.9x1.6mm, Pitch 0.95mm, Lead Span 2.8mm, IPC Medium Density)
footprint MF05A_L (SOT23, 5-Leads, Body 2.9x1.6mm, Pitch 0.95mm, Lead Span 2.8mm, IPC High Density)
footprint MF05A_M (SOT23, 5-Leads, Body 2.9x1.6mm, Pitch 0.95mm, Lead Span 2.8mm, IPC Low Density)
pins: 1 NC, 2 GND (power), 3 EN (in), 4 IN (power), 5 VREF (power)

## LM4132CMF-1.8
designator U?
SOT-23 Precision Low Dropout Voltage Reference; PartNumber: LM4132CMF-1.8; Manufacturer: National Semiconductor; CompType: Voltage Reference IC; PackageTopMarking: R4AC*XTT; PowerWise: N; Published: 4-Dec-2008; DatasheetVersion: Aug-2006; PackageVersion: revD, Aug-2008; PackageReference: MF05A; Publisher: Altium Limited; PackageDescription: Molded SOT-23, .115 x .063 x .040 in Body, 5 Lead, .0375 in Pitch; RoHS: Y; PinCount: 5; DigiKeyPartNumber: LM4132CMF-1.8CT-ND; ComponentLink1Description: LM4132 Datasheet; ComponentLink1URL: http://www.national.com/ds/LM/LM4132.pdf; ComponentLink2Description: LM4132 Web Page; ComponentLink2URL: http://www.national.com/pf/LM/LM4132.html; ComponentLink3Description: MF05A Package Page; ComponentLink3URL: http://www.national.com/packaging/folders/mf05a.html
footprint MF05A_N (SOT23, 5-Leads, Body 2.9x1.6mm, Pitch 0.95mm, Lead Span 2.8mm, IPC Medium Density)
footprint MF05A_L (SOT23, 5-Leads, Body 2.9x1.6mm, Pitch 0.95mm, Lead Span 2.8mm, IPC High Density)
footprint MF05A_M (SOT23, 5-Leads, Body 2.9x1.6mm, Pitch 0.95mm, Lead Span 2.8mm, IPC Low Density)
pins: 1 NC, 2 GND (power), 3 EN (in), 4 IN (power), 5 VREF (power)

## LM4132CMF-2.0
designator U?
SOT-23 Precision Low Dropout Voltage Reference; PartNumber: LM4132CMF-2.0; Manufacturer: National Semiconductor; CompType: Voltage Reference IC; PackageTopMarking: R4BC*XTT; PowerWise: Y; Published: 4-Dec-2008; DatasheetVersion: Aug-2006; PackageVersion: revD, Aug-2008; PackageReference: MF05A; Publisher: Altium Limited; PackageDescription: Molded SOT-23, .115 x .063 x .040 in Body, 5 Lead, .0375 in Pitch; RoHS: Y; PinCount: 5; DigiKeyPartNumber: LM4132CMF-2.0CT-ND; ComponentLink1Description: LM4132 Datasheet; ComponentLink1URL: http://www.national.com/ds/LM/LM4132.pdf; ComponentLink2Description: LM4132 Web Page; ComponentLink2URL: http://www.national.com/pf/LM/LM4132.html; ComponentLink3Description: MF05A Package Page; ComponentLink3URL: http://www.national.com/packaging/folders/mf05a.html
footprint MF05A_N (SOT23, 5-Leads, Body 2.9x1.6mm, Pitch 0.95mm, Lead Span 2.8mm, IPC Medium Density)
footprint MF05A_L (SOT23, 5-Leads, Body 2.9x1.6mm, Pitch 0.95mm, Lead Span 2.8mm, IPC High Density)
footprint MF05A_M (SOT23, 5-Leads, Body 2.9x1.6mm, Pitch 0.95mm, Lead Span 2.8mm, IPC Low Density)
pins: 1 NC, 2 GND (power), 3 EN (in), 4 IN (power), 5 VREF (power)

## LM4132CMF-2.5
designator U?
SOT-23 Precision Low Dropout Voltage Reference; PartNumber: LM4132CMF-2.5; Manufacturer: National Semiconductor; CompType: Voltage Reference IC; PackageTopMarking: R4CC*XTT; PowerWise: Y; Published: 4-Dec-2008; DatasheetVersion: Aug-2006; PackageVersion: revD, Aug-2008; PackageReference: MF05A; Publisher: Altium Limited; PackageDescription: Molded SOT-23, .115 x .063 x .040 in Body, 5 Lead, .0375 in Pitch; RoHS: Y; PinCount: 5; DigiKeyPartNumber: LM4132CMF-2.5CT-ND; ComponentLink1Description: LM4132 Datasheet; ComponentLink1URL: http://www.national.com/ds/LM/LM4132.pdf; ComponentLink2Description: LM4132 Web Page; ComponentLink2URL: http://www.national.com/pf/LM/LM4132.html; ComponentLink3Description: MF05A Package Page; ComponentLink3URL: http://www.national.com/packaging/folders/mf05a.html
footprint MF05A_N (SOT23, 5-Leads, Body 2.9x1.6mm, Pitch 0.95mm, Lead Span 2.8mm, IPC Medium Density)
footprint MF05A_L (SOT23, 5-Leads, Body 2.9x1.6mm, Pitch 0.95mm, Lead Span 2.8mm, IPC High Density)
footprint MF05A_M (SOT23, 5-Leads, Body 2.9x1.6mm, Pitch 0.95mm, Lead Span 2.8mm, IPC Low Density)
pins: 1 NC, 2 GND (power), 3 EN (in), 4 IN (power), 5 VREF (power)

## LM4132CMF-3.0
designator U?
SOT-23 Precision Low Dropout Voltage Reference; PartNumber: LM4132CMF-3.0; Manufacturer: National Semiconductor; CompType: Voltage Reference IC; PackageTopMarking: R4DC*XTT; PowerWise: N; Published: 4-Dec-2008; DatasheetVersion: Aug-2006; PackageVersion: revD, Aug-2008; PackageReference: MF05A; Publisher: Altium Limited; PackageDescription: Molded SOT-23, .115 x .063 x .040 in Body, 5 Lead, .0375 in Pitch; RoHS: Y; PinCount: 5; DigiKeyPartNumber: LM4132CMF-3.0CT-ND; ComponentLink1Description: LM4132 Datasheet; ComponentLink1URL: http://www.national.com/ds/LM/LM4132.pdf; ComponentLink2Description: LM4132 Web Page; ComponentLink2URL: http://www.national.com/pf/LM/LM4132.html; ComponentLink3Description: MF05A Package Page; ComponentLink3URL: http://www.national.com/packaging/folders/mf05a.html
footprint MF05A_N (SOT23, 5-Leads, Body 2.9x1.6mm, Pitch 0.95mm, Lead Span 2.8mm, IPC Medium Density)
footprint MF05A_L (SOT23, 5-Leads, Body 2.9x1.6mm, Pitch 0.95mm, Lead Span 2.8mm, IPC High Density)
footprint MF05A_M (SOT23, 5-Leads, Body 2.9x1.6mm, Pitch 0.95mm, Lead Span 2.8mm, IPC Low Density)
pins: 1 NC, 2 GND (power), 3 EN (in), 4 IN (power), 5 VREF (power)

## LM4132CMF-3.3
designator U?
SOT-23 Precision Low Dropout Voltage Reference; PartNumber: LM4132CMF-3.3; Manufacturer: National Semiconductor; CompType: Voltage Reference IC; PackageTopMarking: R4EC*XTT; PowerWise: N; Published: 4-Dec-2008; DatasheetVersion: Aug-2006; PackageVersion: revD, Aug-2008; PackageReference: MF05A; Publisher: Altium Limited; PackageDescription: Molded SOT-23, .115 x .063 x .040 in Body, 5 Lead, .0375 in Pitch; RoHS: Y; PinCount: 5; DigiKeyPartNumber: LM4132CMF-3.3CT-ND; ComponentLink1Description: LM4132 Datasheet; ComponentLink1URL: http://www.national.com/ds/LM/LM4132.pdf; ComponentLink2Description: LM4132 Web Page; ComponentLink2URL: http://www.national.com/pf/LM/LM4132.html; ComponentLink3Description: MF05A Package Page; ComponentLink3URL: http://www.national.com/packaging/folders/mf05a.html
footprint MF05A_N (SOT23, 5-Leads, Body 2.9x1.6mm, Pitch 0.95mm, Lead Span 2.8mm, IPC Medium Density)
footprint MF05A_L (SOT23, 5-Leads, Body 2.9x1.6mm, Pitch 0.95mm, Lead Span 2.8mm, IPC High Density)
footprint MF05A_M (SOT23, 5-Leads, Body 2.9x1.6mm, Pitch 0.95mm, Lead Span 2.8mm, IPC Low Density)
pins: 1 NC, 2 GND (power), 3 EN (in), 4 IN (power), 5 VREF (power)

## LM4132CMF-4.1
designator U?
SOT-23 Precision Low Dropout Voltage Reference; PartNumber: LM4132CMF-4.1; Manufacturer: National Semiconductor; CompType: Voltage Reference IC; PackageTopMarking: R4FC*XTT; PowerWise: Y; Published: 4-Dec-2008; DatasheetVersion: Aug-2006; PackageVersion: revD, Aug-2008; PackageReference: MF05A; Publisher: Altium Limited; PackageDescription: Molded SOT-23, .115 x .063 x .040 in Body, 5 Lead, .0375 in Pitch; RoHS: O; PinCount: 5; DigiKeyPartNumber: LM4132CMF-4.1CT-ND; ComponentLink1Description: LM4132 Datasheet; ComponentLink1URL: http://www.national.com/ds/LM/LM4132.pdf; ComponentLink2Description: LM4132 Web Page; ComponentLink2URL: http://www.national.com/pf/LM/LM4132.html; ComponentLink3Description: MF05A Package Page; ComponentLink3URL: http://www.national.com/packaging/folders/mf05a.html
footprint MF05A_N (SOT23, 5-Leads, Body 2.9x1.6mm, Pitch 0.95mm, Lead Span 2.8mm, IPC Medium Density)
footprint MF05A_L (SOT23, 5-Leads, Body 2.9x1.6mm, Pitch 0.95mm, Lead Span 2.8mm, IPC High Density)
footprint MF05A_M (SOT23, 5-Leads, Body 2.9x1.6mm, Pitch 0.95mm, Lead Span 2.8mm, IPC Low Density)
pins: 1 NC, 2 GND (power), 3 EN (in), 4 IN (power), 5 VREF (power)

## LM4132DMF-1.8
designator U?
SOT-23 Precision Low Dropout Voltage Reference; PartNumber: LM4132DMF-1.8; Manufacturer: National Semiconductor; CompType: Voltage Reference IC; PackageTopMarking: R4AD*XTT; PowerWise: N; Published: 4-Dec-2008; DatasheetVersion: Aug-2006; PackageVersion: revD, Aug-2008; PackageReference: MF05A; Publisher: Altium Limited; PackageDescription: Molded SOT-23, .115 x .063 x .040 in Body, 5 Lead, .0375 in Pitch; RoHS: Y; PinCount: 5; DigiKeyPartNumber: LM4132DMF-1.8CT-ND; ComponentLink1Description: LM4132 Datasheet; ComponentLink1URL: http://www.national.com/ds/LM/LM4132.pdf; ComponentLink2Description: LM4132 Web Page; ComponentLink2URL: http://www.national.com/pf/LM/LM4132.html; ComponentLink3Description: MF05A Package Page; ComponentLink3URL: http://www.national.com/packaging/folders/mf05a.html
footprint MF05A_N (SOT23, 5-Leads, Body 2.9x1.6mm, Pitch 0.95mm, Lead Span 2.8mm, IPC Medium Density)
footprint MF05A_L (SOT23, 5-Leads, Body 2.9x1.6mm, Pitch 0.95mm, Lead Span 2.8mm, IPC High Density)
footprint MF05A_M (SOT23, 5-Leads, Body 2.9x1.6mm, Pitch 0.95mm, Lead Span 2.8mm, IPC Low Density)
pins: 1 NC, 2 GND (power), 3 EN (in), 4 IN (power), 5 VREF (power)